# EAGLE library part MCP40D17 (library yapo)
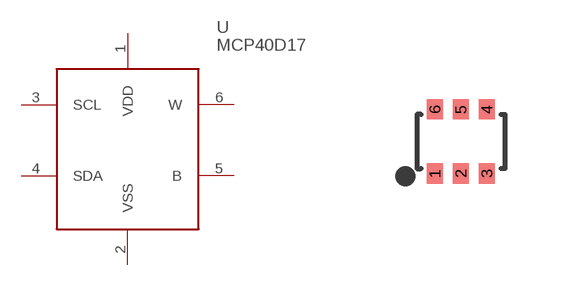
[diagram p30: symbol with the pads of SC70-6; footprint SC70-6]

Designator prefix -

## MCP40D17  [SC70-6]
1  VDD
2  VSS
3  SCL
4  SDA
5  B
6  W

## Footprint SC70-6 (pad centres in mm)
smd 0.4 x 0.5: 1 -0.65,-0.8; 2 0,-0.8; 3 0.65,-0.8; 4 0.65,0.8; 5 0,0.8; 6 -0.65,0.8